# Altium footprint library SC_HRS2H-S.PcbLib: 1 footprints
Each footprint in its own frame and in the unit in brackets; x right, y up, seen from the top. Pads: shape width x height; smd on the part's side, far side on the other; paste and mask are expansions set on the pad; w line width, h text height; cw(c..) or ccw(c..) is an arc to the next point about the centre after c.
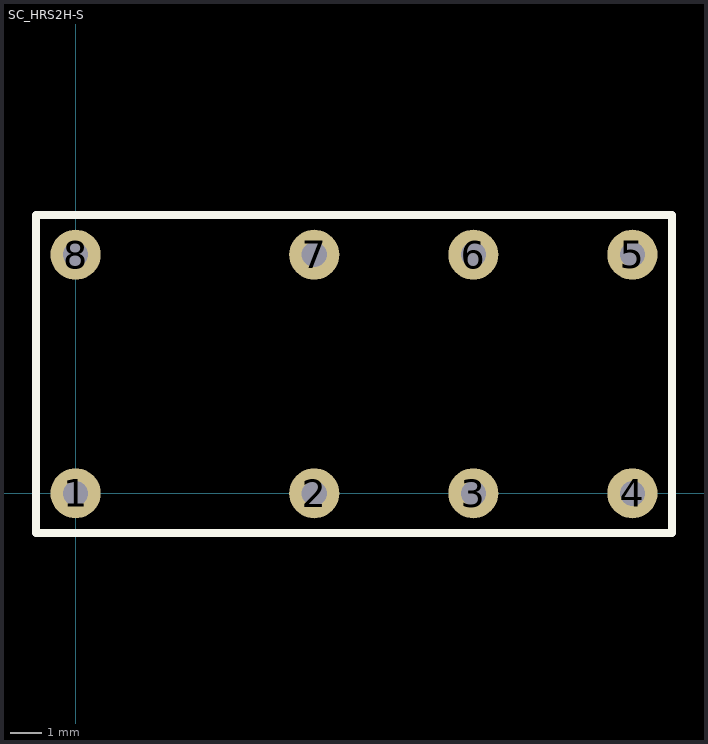
[diagram p0: the footprint, top view; thin cyan lines are the x and y axes]

## SC_HRS2H-S [mm] "Relay 2 form C"
height 11.4
pads (8):
  round 1.6 hole 0.8: 1(0,0) 2(7.62,0) 3(12.7,0) 4(17.78,0) 5(17.78,7.62) 6(12.7,7.62) 7(7.62,7.62) 8(0,7.62)
Top Overlay:
  lines w0.254: -1.27,-1.27 19.05,-1.27 19.05,8.89 -1.27,8.89 -1.27,-1.27
3D body: height 11.4, standoff 0, extent -0.902,-0.902 18.682,8.522
3D body: height 11.4, standoff 0, extent -1.269,-1.269 19.049,8.889